# EAGLE library part FFRC16 (library Gemelke_Lab)
Flat-flex ribbon cable 16-pin RA connector
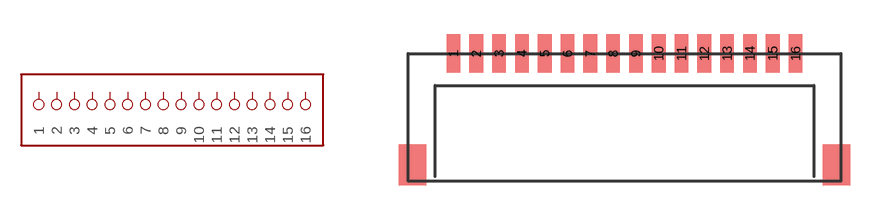
[diagram p9: symbol with the pads of FFRC16; footprint FFRC16]

Designator prefix J

## FFRC16  [FFRC16]
1  1
2  2
3  3
4  4
5  5
6  6
7  7
8  8
9  9
10  10
11  11
12  12
13  13
14  14
15  15
16  16

## Footprint FFRC16 (pad centres in mm)
TE Connectivity AMP FFRC Connector 16 pin
smd 0.6 x 1.7: 1 -8,0; 2 -7,0; 3 -6,0; 4 -5,0; 5 -4,0; 6 -3,0; 7 -2,0; 8 -1,0; 9 0,0; 10 1,0; 11 2,0; 12 3,0; 13 4,0; 14 5,0; 15 6,0; 16 7,0